# Altium footprint library 1825910-6.PcbLib: 1 footprints
Each footprint in its own frame and in the unit in brackets; x right, y up, seen from the top. Pads: shape width x height; smd on the part's side, far side on the other; paste and mask are expansions set on the pad; w line width, h text height; cw(c..) or ccw(c..) is an arc to the next point about the centre after c.
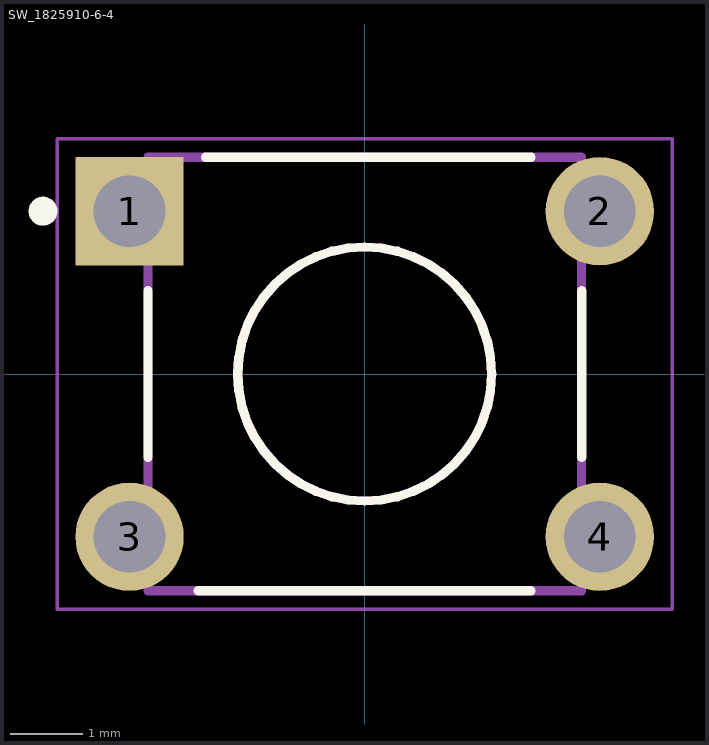
[diagram p0: the footprint, top view; thin cyan lines are the x and y axes]

## SW_1825910-6-4 [mm]
pads (4):
  rect 1.498x1.498 hole 0.99: 1(-3.25,2.25)
  round 1.498 hole 0.99: 2(3.25,2.25) 3(-3.25,-2.25) 4(3.25,-2.25)
Top Overlay:
  circle w0.2: c-4.445,2.25 r0.1
  circle w0.127: c0,0 r1.755
  lines w0.127: -2.995,-1.15 -2.995,1.15 ; -2.3,-2.995 2.3,-2.995 ; -2.2,2.995 2.3,2.995 ; 3,-1.15 3,1.15
Mechanical 13:
  circle w0.127: c0,0 r1.755
  lines w0.127: -2.995,-2.995 2.995,-2.995 2.995,2.995 -2.995,2.995 -2.995,-2.995
Mechanical 15:
  lines w0.05: -4.25,-3.25 4.25,-3.25 4.25,3.25 -4.25,3.25 -4.25,-3.25
3D body "step_temp.STEP": height 5.01, standoff -3.51, extent -3.898,-2.995 3.9,2.995